# EAGLE library part M141 (library dec-m)
Two 2-2-2-2 AND-NOR gates, 2-2-2 AND-NOR gate. 2 input NAND, 2 inverters
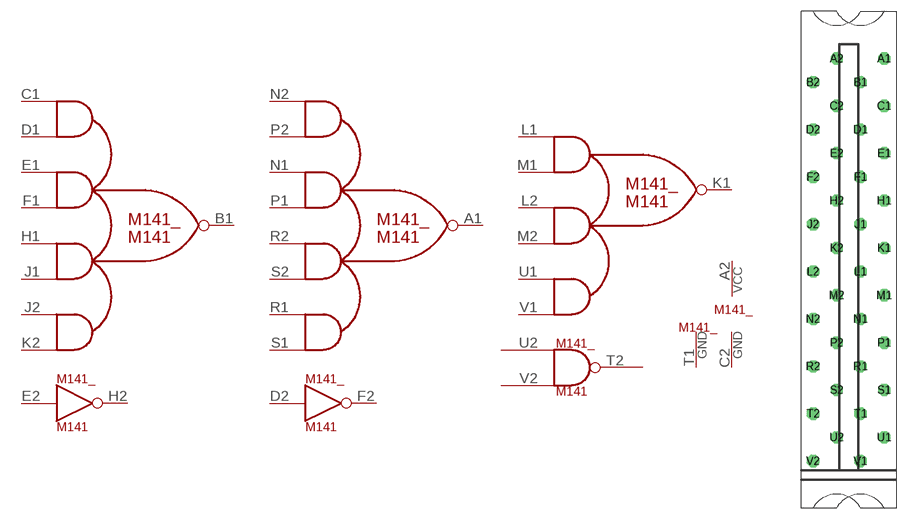
[diagram p109: symbol with the pads of H807; footprint H807]

Designator prefix M141_; gates B1=AND-NOR-2-2-2-2 A1=AND-NOR-2-2-2-2 K1=AND-NOR-2-2-2 T2=NAND2 H2=INVERTER-P F2=INVERTER-P G$7=POWER G$8=T1GND

## M141  [H807]
A1  A1:OUT  out
A2  G$7:VCC  pwr
B1  B1:OUT  out
C1  B1:IN1A  in
C2  G$7:GND  pwr
D1  B1:IN1B  in
D2  F2:IN  in
E1  B1:IN2A  in
E2  H2:IN  in
F1  B1:IN2B  in
F2  F2:OUT  out
H1  B1:IN3A  in
H2  H2:OUT  out
J1  B1:IN3B  in
J2  B1:IN4A  in
K1  K1:OUT  out
K2  B1:IN4B  in
L1  K1:IN1A  in
L2  K1:IN2A  in
M1  K1:IN1B  in
M2  K1:IN2B  in
N1  A1:IN2A  in
N2  A1:IN1A  in
P1  A1:IN2B  in
P2  A1:IN1B  in
R1  A1:IN4A  in
R2  A1:IN3A  in
S1  A1:IN4B  in
S2  A1:IN3B  in
T1  G$8:GND  pwr
T2  T2:OUT  out
U1  K1:IN3A  in
U2  T2:IN1  in
V1  K1:IN3B  in
V2  T2:IN2  in

## Footprint H807 (pad centres in mm)
One-wide female edge connector
drill 1.092 octagon: A1 4.763,28.575; A2 -1.587,28.575; B1 1.587,25.4; B2 -4.763,25.4; C1 4.763,22.225; C2 -1.587,22.225; D1 1.587,19.05; D2 -4.763,19.05; E1 4.763,15.875; E2 -1.587,15.875; F1 1.587,12.7; F2 -4.763,12.7; H1 4.763,9.525; H2 -1.587,9.525; J1 1.587,6.35; J2 -4.763,6.35; K1 4.763,3.175; K2 -1.587,3.175; L1 1.587,0; L2 -4.763,0; M1 4.763,-3.175; M2 -1.587,-3.175; N1 1.587,-6.35; N2 -4.763,-6.35; P1 4.763,-9.525; P2 -1.587,-9.525; R1 1.587,-12.7; R2 -4.763,-12.7; S1 4.763,-15.875; S2 -1.587,-15.875; T1 1.587,-19.05; T2 -4.763,-19.05; U1 4.763,-22.225; U2 -1.587,-22.225; V1 1.587,-25.4; V2 -4.763,-25.4